# Altium schematic symbol library CN_COAX.Schlib: 2 symbols
Pins are listed as number, name and electrical type; pins without a type are passive.

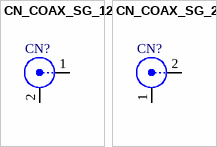
[diagram p0: symbols CN_COAX_SG_12 to CN_COAX_SG_21]

## CN_COAX_SG_12
designator CN?
pins: 1 Y, 2 X

## CN_COAX_SG_21
designator CN?
pins: 1 Y, 2 X